# Altium footprint library 传感元件.PcbLib: 28 footprints (part 2 of 2)
Each footprint in its own frame and in the unit in brackets; x right, y up, seen from the top. Pads: shape width x height; smd on the part's side, far side on the other; paste and mask are expansions set on the pad; w line width, h text height; cw(c..) or ccw(c..) is an arc to the next point about the centre after c.
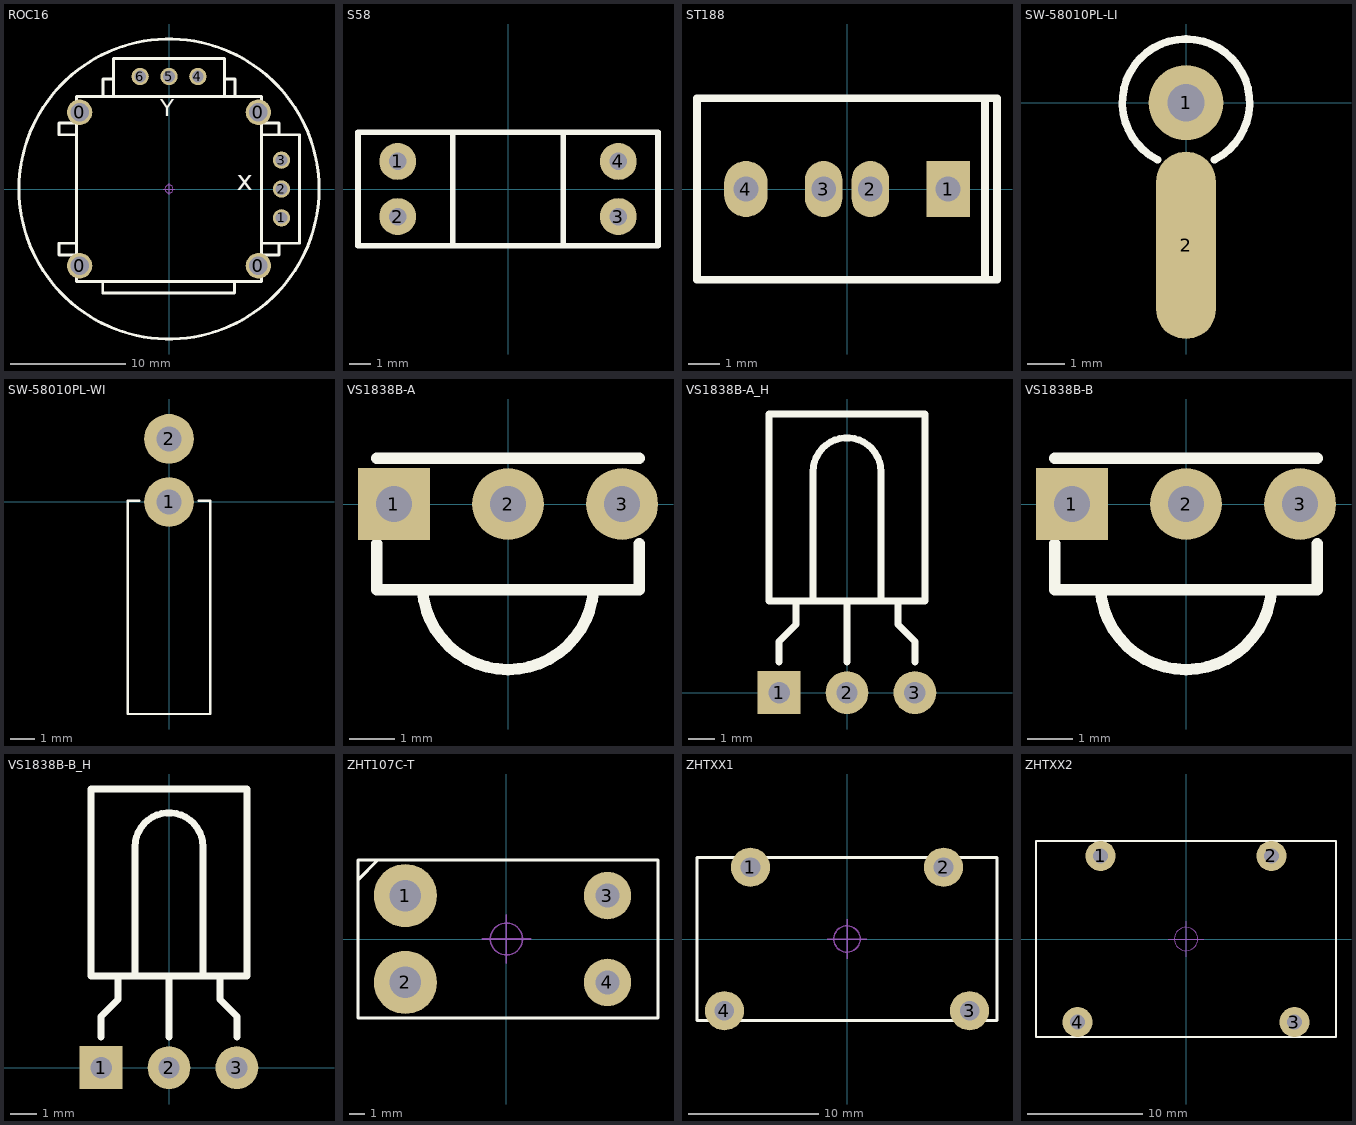
[diagram p1: the footprints below, top view; thin cyan lines are the x and y axes]

## ROC16 [mm] "摇杆电位器，长16mm，宽16mm，高12.2mm"
pads (10):
  round 2.2 hole 1.6: 0(-7.75,-6.65) 0(-7.75,6.65) 0(7.75,-6.65) 0(7.75,6.65)
  round 1.5 hole 1: 1(9.75,-2.5) 2(9.75,0) 3(9.75,2.5) 4(2.5,9.75) 5(0,9.75) 6(-2.5,9.75)
Top Overlay:
  circle w0.254: c0,0 r13
  lines w0.254: -8,-5.715 -9.525,-5.715 -9.525,-4.699 -8,-4.699 ; -8,4.699 -9.525,4.699 -9.525,5.715 -8,5.715 ; -5.741,-8.028 -5.741,-9.017 5.689,-9.017 5.689,-8.027 5.663,-8.053 ; -5.715,8 -5.715,9.525 -4.8,9.525 ; -4.8,8 -4.8,11.3 4.8,11.3 4.8,8 ; 4.8,9.144 4.8,8 ; 4.8,9.525 5.715,9.525 5.715,8 ; 4.826,8.026 4.8,8 ; 8,-5.715 9.525,-5.715 9.525,-4.699 ; 8,-4.699 9.525,-4.699 ; 8,4.699 9.525,4.699 ; 8,5.715 9.525,5.715 9.525,4.699 ; 9.525,-4.699 11.3,-4.699 11.301,-2.425 ; 9.525,4.699 11.303,4.699 11.302,2.324 11.301,-2.425 ; 11.301,-2.425 11.301,-2.425 ; -8,-8 8,-8 8,8 -8,8 -8,-8
  text "x" at 5.867,-0.737 h3
  text "Y" at -0.762,5.842 h2.5
Mechanical 15:
  circle w0.05: c0,0 r0.35
  lines w0.05: -0.5,0 0.5,0 ; 0,-0.5 0,0.5
3D body "ROC16.STEP": height 29.36, standoff -3.65, extent -12.5,-12.5 12.5,12.5

## S58 [mm] "对射型光耦"
pads (4):
  round 1.7 hole 0.8: 1(-5.08,1.27) 2(-5.08,-1.27) 3(5.08,-1.27) 4(5.08,1.27)
Top Overlay:
  lines w0.254: -2.54,-2.616 -2.54,2.616 ; 2.54,-2.54 2.54,2.54 ; -6.909,-2.616 -6.909,2.616 -5.08,2.616 6.909,2.616 6.909,-2.616 -6.909,-2.616
3D body "S58.STEP": height 10, standoff -3.5, extent -6.9,-2.6 6.9,2.6

## ST188 [mm] "反射型光耦"
pads (4):
  rect 1.4x1.8 hole 0.8: 1(3.25,0)
  oval 1.2x1.8 hole 0.8: 2(0.75,0) 3(-0.75,0)
  oval 1.4x1.8 hole 0.8: 4(-3.25,0)
Top Overlay:
  lines w0.254: 4.445,-2.921 4.445,2.921 ; -4.826,-2.921 -4.826,2.921 4.826,2.921 4.826,-2.921 -4.826,-2.921
3D body "ST188.STEP": height 8.2, standoff -3.5, extent -4.7,-2.75 4.7,2.75

## SW-58010PL-LI [mm] "3.2mm*8.5mm(直径*长度）"
pads (2):
  round 2 hole 1: 1(0,0)
  oval 1.6x5 smd: 2(0,-3.81)
Top Overlay:
  lines w0.203: -0.76,-1.521 cw(c0,0) 0.76,-1.521
3D body "SW-58010PL-LI.STEP": height 8.5, standoff -3.5, extent -1.6,-5.549 1.6,1.6

## SW-58010PL-WI [mm] "3.2mm*8.5mm(直径*长度）"
pads (2):
  round 2 hole 1: 1(0,0) 2(0,2.54)
Top Overlay:
  lines w0.1: -1.194,0.051 -1.651,0.051 -1.651,-8.534 1.651,-8.534 1.651,0.051 1.194,0.051
3D body "SW-58010PL-WI.STEP": height 3.2, standoff -3.45, extent -1.6,-8.5 1.6,2.64

## VS1838B-A [mm] "一体红外接收头"
pads (3):
  rect 1.6x1.6 hole 0.8: 1(-2.54,0)
  round 1.6 hole 0.8: 2(0,0) 3(2.54,0)
Top Overlay:
  lines w0.254: -2.921,-0.889 -2.921,-1.905 2.921,-1.905 2.921,-0.889 ; -2.921,1.016 2.921,1.016 ; -1.905,-1.905 ccw(c0,-1.778) 1.905,-1.905
3D body "VS1838B-A.STEP": height 8.3, standoff -3.5, extent -2.84,-3.6 2.84,0.8

## VS1838B-A_H [mm] "卧式一体红外接收头"
pads (3):
  rect 1.6x1.6 hole 0.8: 1(-2.54,0)
  round 1.6 hole 0.8: 2(0,0) 3(2.54,0)
Top Overlay:
  lines w0.254: -2.54,1.143 -2.54,1.905 -1.905,2.54 -1.905,3.429 ; -1.27,3.429 -1.27,8.255 cw(c0,8.255) 1.27,8.255 1.27,3.429 ; 0,1.143 0,3.429 ; 1.905,3.429 1.905,2.54 2.54,1.905 2.54,1.143 ; -2.921,3.429 2.921,3.429 2.921,10.414 -2.921,10.414 -2.921,3.429
3D body "VS1838B-A_H.STEP": height 4.4, standoff -3.5, extent -2.84,-0.2 2.84,10.3

## VS1838B-B [mm] "一体红外接收头"
pads (3):
  rect 1.6x1.6 hole 0.8: 1(-2.54,0)
  round 1.6 hole 0.8: 2(0,0) 3(2.54,0)
Top Overlay:
  lines w0.254: -2.921,-0.889 -2.921,-1.905 2.921,-1.905 2.921,-0.889 ; -2.921,1.016 2.921,1.016 ; -1.905,-1.905 ccw(c0,-1.778) 1.905,-1.905
3D body "VS1838B-B.STEP": height 8.65, standoff -3.5, extent -3.4,-3.95 3.4,1.15

## VS1838B-B_H [mm] "卧式一体红外接收头"
pads (3):
  rect 1.6x1.6 hole 0.8: 1(-2.54,0)
  round 1.6 hole 0.8: 2(0,0) 3(2.54,0)
Top Overlay:
  lines w0.254: -2.54,1.143 -2.54,1.905 -1.905,2.54 -1.905,3.429 ; -1.27,3.429 -1.27,8.255 cw(c0,8.255) 1.27,8.255 1.27,3.429 ; 0,1.143 0,3.429 ; 1.905,3.429 1.905,2.54 2.54,1.905 2.54,1.143 ; -2.921,3.429 2.921,3.429 2.921,10.414 -2.921,10.414 -2.921,3.429
3D body "VS1838B-B_H.STEP": height 5.15, standoff -3.1, extent -3.4,-0.2 3.4,10.65

## ZHT107C-T [mm]
pads (4):
  round 4 hole 2: 1(-6.4,2.75) 2(-6.4,-2.75)
  round 3 hole 1.5: 3(6.4,2.75) 4(6.4,-2.75)
Top Overlay:
  lines w0.2: -9.396,3.757 -8.153,5 ; -9.4,-5 9.6,-5 9.6,5 -9.4,5 -9.4,-5
Mechanical 15:
  circle w0.1: c0,0 r1.016
  lines w0.1: -1.524,0 1.524,0 ; 0,-1.524 0,1.524
3D body: height 18.31, standoff 0, extent -9.282,4.136 -8.497,4.906
3D body: height 0, standoff -4, extent 6.007,-3.135 6.792,-2.365
3D body: height 0, standoff -4, extent 6.007,2.365 6.792,3.135
3D body: height 0, standoff -4, extent -6.904,-3.258 -5.896,-2.242
3D body: height 0, standoff -4, extent -6.904,2.242 -5.896,3.258
3D body: height 18.3, standoff 0, extent -9.4,-5 9.6,5

## ZHTXX1 [mm]
pads (4):
  round 3 hole 1.5: 1(-7.4,5.5) 2(7.4,5.5) 3(9.4,-5.5) 4(-9.4,-5.5)
Top Overlay:
  lines w0.2: -11.5,-6.25 -11.5,6.25 11.5,6.25 11.5,-6.25 -11.5,-6.25
Mechanical 15:
  circle w0.1: c0,0 r1.016
  lines w0.1: -1.524,0 1.524,0 ; 0,-1.524 0,1.524
3D body "ZHT118F.stp": height 24.55, standoff -5, extent -11.75,-6.25 11.75,6.25

## ZHTXX2 [mm]
pads (4):
  round 2.6 hole 1.3: 1(-7.4,7.2) 2(7.4,7.2) 3(9.4,-7.2) 4(-9.4,-7.2)
Top Overlay:
  lines w0.2: -13,-8.5 -13,0 -13,8.5 0,8.5 13,8.5 13,0 13,-8.5 0,-8.5 -13,-8.5
Mechanical 15:
  circle w0.1: c0,0 r1.016
  lines w0.1: -1.524,0 1.524,0 ; 0,-1.524 0,1.524
3D body "ZHTXX2.stp": height 28, standoff -5, extent -13,-8.5 13,8.5